# EAGLE library part KXTJ9-1007 (library Allie_custom)
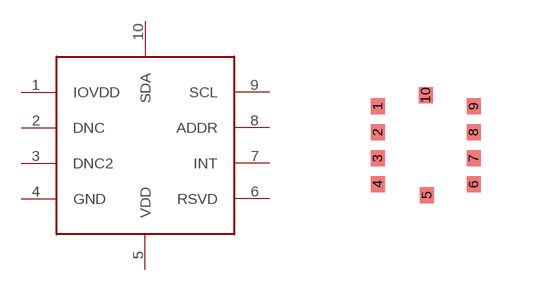
[diagram p2: symbol with the pads of KXTJ9-1007; footprint KXTJ9-1007]

Designator prefix -

## KXTJ9-1007  [KXTJ9-1007]
1  IOVDD
2  DNC
3  DNC2
4  GND
5  VDD
6  RSVD
7  INT
8  ADDR
9  SCL
10  SDA

## Footprint KXTJ9-1007 (pad centres in mm)
smd 0.35 x 0.4: 1 -1.2,0.975; 2 -1.2,0.325; 3 -1.2,-0.325; 4 -1.2,-0.975; 5 0.031,-1.25; 6 1.2,-0.975; 7 1.2,-0.325; 8 1.2,0.325; 9 1.2,0.975; 10 0,1.25